# Altium footprint library Const_Cur_Source.PCBLIB: 58 footprints (part 3 of 4)
Each footprint in its own frame and in the unit in brackets; x right, y up, seen from the top. Pads: shape width x height; smd on the part's side, far side on the other; paste and mask are expansions set on the pad; w line width, h text height; cw(c..) or ccw(c..) is an arc to the next point about the centre after c.
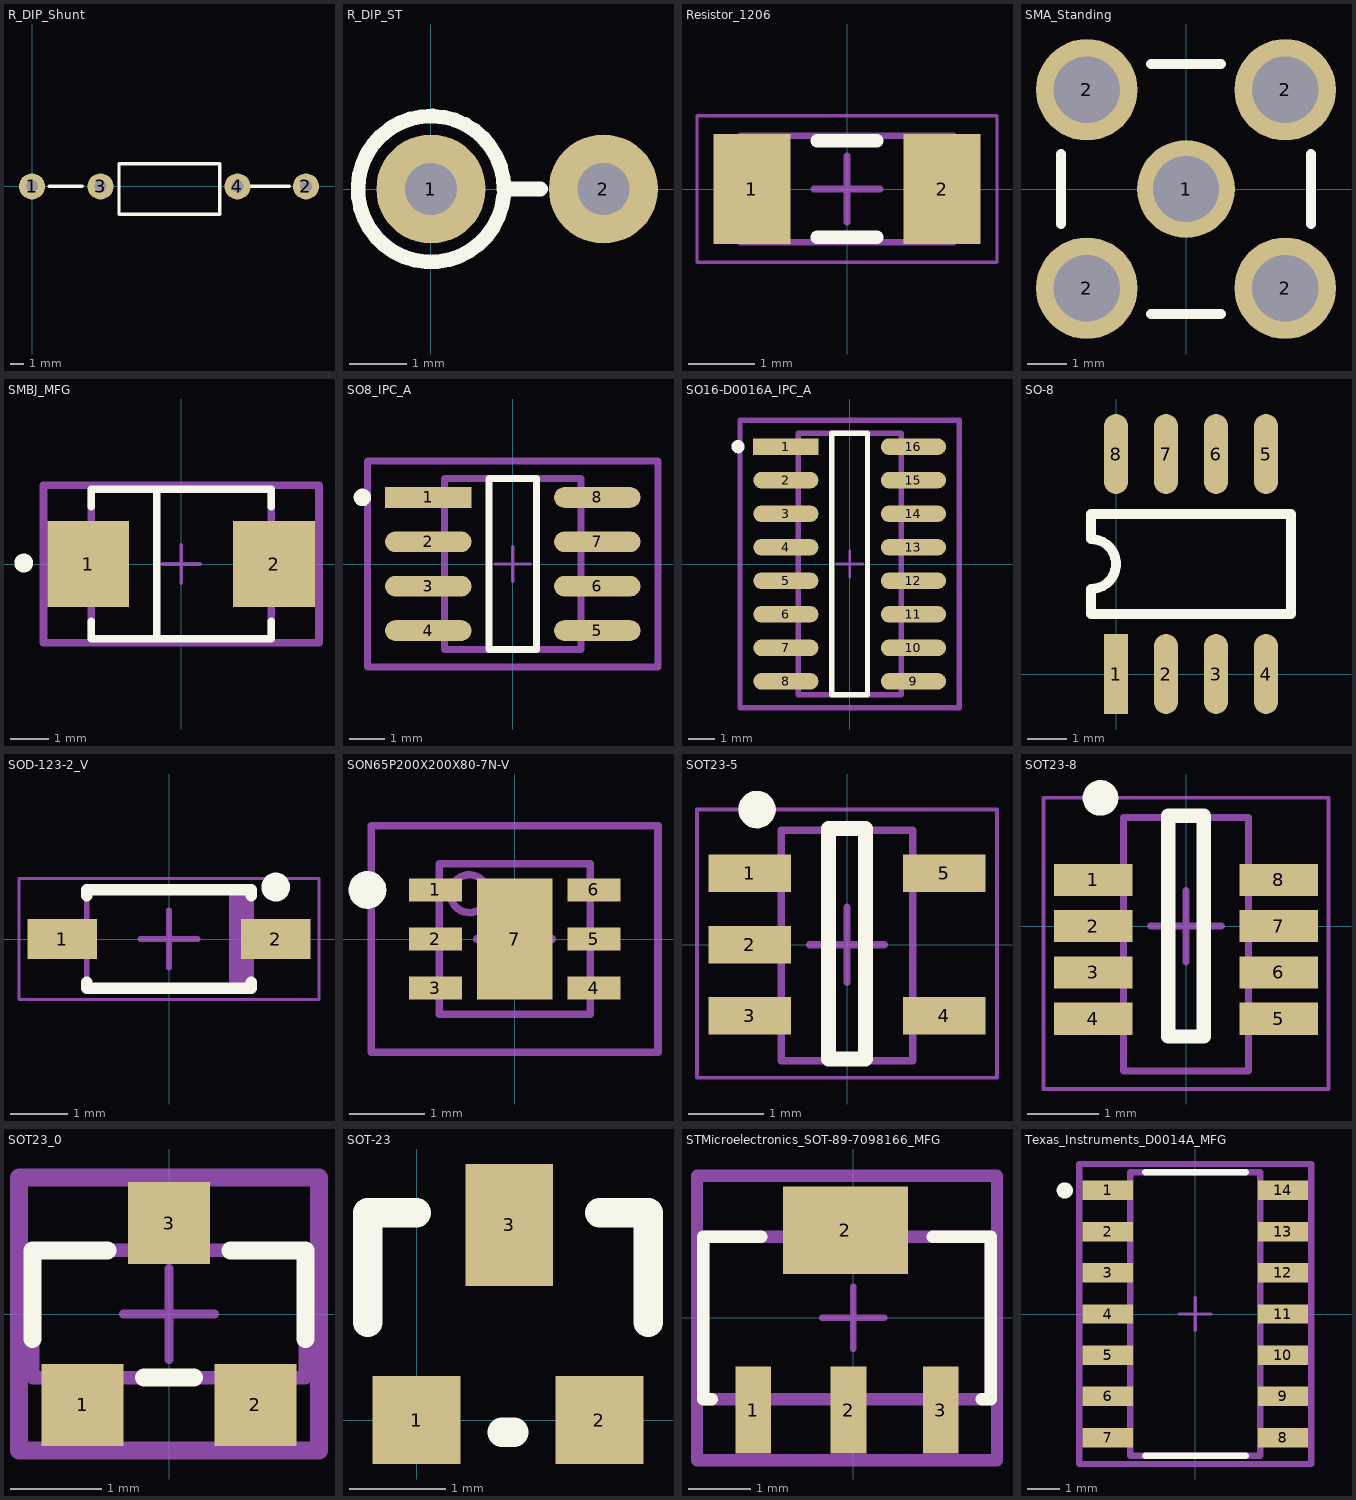
[diagram p2: the footprints below, top view; thin cyan lines are the x and y axes]

## R_DIP_Shunt [mm]
pads (4):
  round 1.9 hole 0.9: 1(0,0) 2(20,0) 3(5,0) 4(15,0)
Top Overlay:
  lines w0.254: 1.27,0 3.683,0 ; 15.367,0 18.796,0 ; 6.35,-2.032 13.716,-2.032 13.716,1.651 6.35,1.651 6.35,-2.032

## R_DIP_ST [mm]
pads (2):
  round 1.9 hole 0.9: 1(0,0) 2(3,0)
Top Overlay:
  lines w0.254: 1.265,-0.115 cw(c0,0) 1.27,0 1.905,0

## Resistor_1206 [mm]
height 1.6
pads (2):
  rect 1.15x1.65 smd: 1(-1.425,0) 2(1.425,0)
Top Overlay:
  lines w0.2: -0.45,-0.725 0.45,-0.725 ; -0.45,0.725 0.45,0.725
tTest:
  lines w0.1: -1.6,-0.8 -1.6,0.8 1.6,0.8 1.6,-0.8 -1.6,-0.8
Unrouted:
  lines w0.05: -2.25,-1.1 -2.25,1.1 2.25,1.1 2.25,-1.1 -2.25,-1.1
  lines w0.1: -0.5,0 0.5,0 ; 0,-0.5 0,0.5
3D body "1206.STEP": height 0.5, standoff 0, extent -1.6,-0.8 1.6,0.8

## SMA_Standing [mm]
pads (5):
  round 2.5 hole 1.7: 1(0,0)
  round 2.6 hole 1.7: 2(-2.54,-2.54) 2(-2.54,2.54) 2(2.54,-2.54) 2(2.54,2.54)
Top Overlay:
  lines w0.254: -3.199,-0.9 -3.199,0.9 ; -0.9,-3.199 0.9,-3.199 ; -0.9,3.199 0.9,3.199 ; 3.199,-0.9 3.199,0.9
3D body: height 1.27, standoff 0, extent -3.556,-3.556 3.556,3.556
3D body: height 9.57, standoff 1.27, extent -3.1,-3.1 3.1,3.1

## SMBJ_MFG [mm]
pads (2):
  rect 2.16x2.26 smd paste+0 mask+0: 1(-2.45,0) 2(2.45,0)
Top Overlay:
  circle w0.25: c-4.15,0.025 r0.125
  lines w0.2: -2.375,-1.505 -2.375,-1.97 2.375,-1.97 2.375,-1.505 ; -2.375,1.505 -2.375,1.97 2.375,1.97 2.375,1.505 ; -0.65,-1.9 -0.65,1.9
bOrigins:
  lines w0.2: -3.63,-2.07 3.63,-2.07 3.63,2.07 -3.63,2.07 -3.63,-2.07
  text ".Designator" at 0,0 h1
bGlue:
  lines w0.2: -2.375,-1.97 2.375,-1.97 2.375,1.97 -2.375,1.97 -2.375,-1.97
Unrouted:
  lines w0.1: -0.5,0 0.5,0 ; 0,-0.5 0,0.5
  lines w0.2: -3.63,-2.07 3.63,-2.07 3.63,2.07 -3.63,2.07 -3.63,-2.07
3D body "Diode_Littelfuse_SMBJ12A_eec.STEP": height 0.25, standoff 0, extent -3.63,-2.07 3.63,2.07

## SO8_IPC_A [mm]
pads (8):
  rect 2.474x0.592 smd paste+0 mask+0: 1(-2.416,1.905)
  rrect100% 2.474x0.592 smd paste+0 mask+0: 2(-2.416,0.635) 3(-2.416,-0.635) 4(-2.416,-1.905) 5(2.416,-1.905) 6(2.416,-0.635) 7(2.416,0.635) 8(2.416,1.905)
Top Overlay:
  circle w0.25: c-4.303,1.905 r0.125
  lines w0.2: -0.679,-2.45 0.679,-2.45 0.679,2.45 -0.679,2.45 -0.679,-2.45
bOrigins:
  lines w0.2: -4.153,-2.95 4.153,-2.95 4.153,2.95 -4.153,2.95 -4.153,-2.95
  text ".Designator" at 0,0.188 h1
bGlue:
  lines w0.2: -1.95,-2.45 1.95,-2.45 1.95,2.45 -1.95,2.45 -1.95,-2.45
Unrouted:
  lines w0.1: -0.5,0 0.5,0 ; 0,-0.5 0,0.5
  lines w0.2: -4.153,-2.95 4.153,-2.95 4.153,2.95 -4.153,2.95 -4.153,-2.95
3D body "IC_STMicroelectronics_LM393D_eec.STEP": height 0.25, standoff 0, extent -4.153,-2.95 4.153,2.95

## SO16-D0016A_IPC_A [mm]
pads (16):
  rect 2.474x0.622 smd paste+0 mask+0: 1(-2.416,4.445)
  rrect100% 2.474x0.622 smd paste+0 mask+0: 2(-2.416,3.175) 3(-2.416,1.905) 4(-2.416,0.635) 5(-2.416,-0.635) 6(-2.416,-1.905) 7(-2.416,-3.175) 8(-2.416,-4.445) 9(2.416,-4.445) 10(2.416,-3.175) 11(2.416,-1.905) 12(2.416,-0.635) 13(2.416,0.635) 14(2.416,1.905) 15(2.416,3.175) 16(2.416,4.445)
Top Overlay:
  circle w0.25: c-4.228,4.445 r0.125
  lines w0.2: -0.679,-4.95 -0.679,4.95 0.679,4.95 0.679,-4.95 -0.679,-4.95
bOrigins:
  lines w0.2: -4.153,-5.45 -4.153,5.45 4.153,5.45 4.153,-5.45 -4.153,-5.45
  text ".Designator" at 0,0.188 h1
bGlue:
  lines w0.2: -1.95,-4.95 -1.95,4.95 1.95,4.95 1.95,-4.95 -1.95,-4.95
Unrouted:
  lines w0.1: -0.5,0 0.5,0 ; 0,-0.5 0,0.5
  lines w0.2: -4.153,-5.45 -4.153,5.45 4.153,5.45 4.153,-5.45 -4.153,-5.45
3D body "IC_Texas_Instruments_CD74HC595M96_eec.STEP": height 0.25, standoff 0, extent -4.153,-5.45 4.153,5.45

## SO-8 [mil]
pads (8):
  rect 24x80 smd: 1(0,0)
  oval 24x80 smd: 2(50,0) 3(100,0) 4(150,0) 5(150,220) 6(100,220) 7(50,220) 8(0,220)
Top Overlay:
  lines w10: -25,60 -25,85 ccw(c-25,110) -25,135 -25,160 175,160 175,60 -25,60

## SOD-123-2_V [mm] "SOD-123, 2-Leads, Body 2.85x1.7mm (max), Pitch 3.7mm"
height 1.45
pads (2):
  rect 1.2x0.7 smd: 1(-1.85,0) 2(1.85,0)
Top Overlay:
  circle w0.25: c1.85,0.9 r0.125
  lines w0.2: -1.425,-0.75 -1.425,-0.85 1.425,-0.85 1.425,-0.75 ; -1.425,0.75 -1.425,0.85 1.425,0.85 1.425,0.75
tTest:
  rectangle: 1.042,-0.85 1.425,0.85
  lines w0.1: -1.425,-0.85 -1.425,0.85 1.425,0.85 1.425,-0.85 -1.425,-0.85
Unrouted:
  lines w0.05: -2.6,-1.05 -2.6,1.05 2.6,1.05 2.6,-1.05 -2.6,-1.05
  lines w0.1: -0.5,0 0.5,0 ; 0,-0.5 0,0.5
3D body: height 1.45, standoff 0, extent -1.425,-0.85 1.425,0.85

## SON65P200X200X80-7N-V [mm] "SON,0.65mm pitch;6 pin,2.00mm W X 2.00mm L X 0.80mm H body (w/thermal tab)"
height 0.8
pads (7):
  rect 0.7x0.3 smd paste-0.025 mask+0.07: 1(-1.05,0.65) 2(-1.05,0) 3(-1.05,-0.65) 4(1.05,-0.65) 5(1.05,0) 6(1.05,0.65)
  rect 1x1.6 smd paste-0.1 mask+0: 7(0,0)
Top Overlay:
  circle w0.25: c-1.95,0.65 r0.125
tDocu:
  text ".DESIGNATOR" at 0,0 h1.2
tTest:
  circle w0.1: c-0.6,0.6 r0.25
  lines w0.1: -1,-1 1,-1 1,1 -1,1 -1,-1
Unrouted:
  lines w0.1: -0.5,0 0.5,0 ; 0,-0.5 0,0.5 ; -1.9,-1.5 -1.9,1.5 1.9,1.5 1.9,-1.5 -1.9,-1.5
3D body "DRV0006A.stp": height 0.8, standoff 0, extent -1,-1 1,1

## SOT23-5 [mm] "SOT23, 5-Leads, Body 2.9x1.6mm, Pitch 0.95mm, IPC Medium Density"
height 1.45
pads (5):
  rect 1.1x0.5 smd: 1(-1.3,0.95) 2(-1.3,0) 3(-1.3,-0.95) 4(1.3,-0.95) 5(1.3,0.95)
Top Overlay:
  circle w0.25: c-1.2,1.8 r0.125
  lines w0.2: -0.25,-1.524 -0.25,1.55 0.25,1.55 0.25,-1.524 -0.25,-1.524
tTest:
  lines w0.1: -0.875,-1.55 -0.875,1.525 0.875,1.525 0.875,-1.55 -0.875,-1.55
Unrouted:
  lines w0.05: -2,-1.778 -2,1.8 2,1.8 2,-1.778 -2,-1.778
  lines w0.1: -0.5,0 0.5,0 ; 0,-0.5 0,0.5
3D body: height 1.45, standoff 0, extent -0.861,-1.27 0.889,1.271

## SOT23-8 [mm] "SOT23, 5-Leads, Body 2.9x1.6mm, Pitch 0.95mm, IPC Medium Density"
height 1.45
pads (8):
  rect 1.1x0.45 smd: 1(-1.3,0.65) 2(-1.3,0) 3(-1.3,-0.65) 4(-1.3,-1.3) 5(1.3,-1.3) 6(1.3,-0.65) 7(1.3,0) 8(1.3,0.65)
Top Overlay:
  circle w0.25: c-1.2,1.8 r0.125
  lines w0.2: -0.25,-1.55 -0.25,1.55 0.25,1.55 0.25,-1.55 -0.25,-1.55
tTest:
  lines w0.1: -0.875,-2.032 0.875,-2.032 0.875,1.525 -0.875,1.525 -0.875,-2.032
Unrouted:
  lines w0.05: -2,-2.286 2,-2.286 2,1.8 -2,1.8 -2,-2.286
  lines w0.1: -0.5,0 0.5,0 ; 0,-0.5 0,0.5
3D body: height 1.45, standoff 0, extent -0.861,-1.779 0.889,1.271

## SOT23_0 [mm]
pads (3):
  rect 0.9x0.9 smd paste-1000 mask+0: 1(-0.95,-1) 2(0.95,-1) 3(0,1)
Top Overlay:
  lines w0.2: -1.5,-0.275 -1.5,0.7 -0.675,0.7 ; -0.275,-0.7 0.275,-0.7 ; 0.675,0.7 1.5,0.7 1.5,-0.275
Top Paste:
  rectangle: -0.25,0.7 0.25,1.3
  rectangle: -1.2,-1.3 -0.7,-0.7
  rectangle: 0.7,-1.3 1.2,-0.7
bOrigins:
  lines w0.2: -1.65,-1.5 1.65,-1.5 1.65,1.5 -1.65,1.5 -1.65,-1.5
  text ".Designator" at 0,0 h1
bGlue:
  lines w0.15: -1.5,-0.7 1.5,-0.7 1.5,0.7 -1.5,0.7 -1.5,-0.7
Unrouted:
  lines w0.1: -0.5,0 0.5,0 ; 0,-0.5 0,0.5
  lines w0.2: -1.65,-1.5 1.65,-1.5 1.65,1.5 -1.65,1.5 -1.65,-1.5
3D body "Trans_Nexperia_BC807-25,215_eec.STEP": height 0.25, standoff 0, extent -1.65,-1.5 1.65,1.5

## SOT-23 [mil]
pads (3):
  rect 36x36 smd: 1(0,0) 2(75,0)
  rect 36x50 smd: 3(38,80)
Top Overlay:
  lines w12: -20,40 -20,85 0,85 ; 35,-5 40,-5 ; 75,85 95,85 95,40

## STMicroelectronics_SOT-89-7098166_MFG [mm]
pads (4):
  rect 0.57x1.4 smd paste+0 mask+0: 1(-1.6,-1.475) 2(-0.076,-1.475) 3(1.4,-1.475)
  rect 2x1.4 smd paste+0 mask+0: 2(-0.127,1.397)
Top Overlay:
  lines w0.2: -2.26,-1.3 -2.4,-1.3 -2.4,1.3 -1.475,1.3 ; 1.275,1.3 2.2,1.3 2.2,-1.3 2.06,-1.3
bOrigins:
  lines w0.2: -2.5,-2.275 -2.5,2.275 2.3,2.275 2.3,-2.275 -2.5,-2.275
  text ".Designator" at -0.1,0.188 h1
bGlue:
  lines w0.2: -2.4,-1.3 -2.4,1.3 2.2,1.3 2.2,-1.3 -2.4,-1.3
Unrouted:
  lines w0.1: -0.5,0 0.5,0 ; 0,-0.5 0,0.5
  lines w0.2: -2.5,-2.275 -2.5,2.275 2.3,2.275 2.3,-2.275 -2.5,-2.275
3D body "IC_STMicroelectronics_L78L05ACUTR_eec.STEP": height 0.25, standoff 0, extent -2.5,-2.275 2.3,2.275

## Texas_Instruments_D0014A_MFG [mm]
pads (14):
  rect 1.55x0.6 smd paste-1000 mask+0: 1(-2.7,3.81) 2(-2.7,2.54) 3(-2.7,1.27) 4(-2.7,0) 5(-2.7,-1.27) 6(-2.7,-2.54) 7(-2.7,-3.81) 8(2.7,-3.81) 9(2.7,-2.54) 10(2.7,-1.27) 11(2.7,0) 12(2.7,1.27) 13(2.7,2.54) 14(2.7,3.81)
Top Overlay:
  circle w0.25: c-4.025,3.81 r0.125
  lines w0.2: -1.55,-4.375 1.55,-4.375 ; -1.55,4.375 1.55,4.375
Top Paste:
  rectangle: 1.95,-4.085 3.45,-3.535
  rectangle: 1.95,-2.815 3.45,-2.265
  rectangle: 1.95,-1.545 3.45,-0.995
  rectangle: 1.95,-0.275 3.45,0.275
  rectangle: 1.95,0.995 3.45,1.545
  rectangle: 1.95,2.265 3.45,2.815
  rectangle: 1.95,3.535 3.45,4.085
  rectangle: -3.45,-4.085 -1.95,-3.535
  rectangle: -3.45,-2.815 -1.95,-2.265
  rectangle: -3.45,-1.545 -1.95,-0.995
  rectangle: -3.45,-0.275 -1.95,0.275
  rectangle: -3.45,0.995 -1.95,1.545
  rectangle: -3.45,2.265 -1.95,2.815
  rectangle: -3.45,3.535 -1.95,4.085
bOrigins:
  lines w0.2: -3.575,-4.625 3.575,-4.625 3.575,4.625 -3.575,4.625 -3.575,-4.625
  text ".Designator" at 0,0.188 h1
bGlue:
  lines w0.2: -2,-4.375 2,-4.375 2,4.375 -2,4.375 -2,-4.375
Unrouted:
  lines w0.1: -0.5,0 0.5,0 ; 0,-0.5 0,0.5
  lines w0.2: -3.575,-4.625 3.575,-4.625 3.575,4.625 -3.575,4.625 -3.575,-4.625
3D body "IC_Texas_Instruments_OPA4992IDR_eec.STEP": height 0.25, standoff 0, extent -3.575,-4.625 3.575,4.625